# EAGLE library part ARD_PRO_MINI (library Ard_pro_mini)
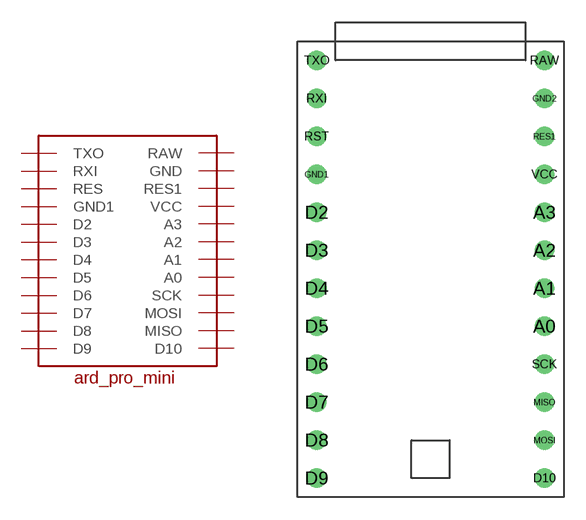
[diagram p0: symbol with the pads of ARD_PRO_MINI; footprint ARD_PRO_MINI]

Designator prefix -

## ARD_PRO_MINI  [ARD_PRO_MINI]
A0  A0
A1  A1
A2  A2
A3  A3
D2  D2
D3  D3
D4  D4
D5  D5
D6  D6
D7  D7
D8  D8
D9  D9
D10  D10
GND1  GND
GND2  GND1
MISO  MISO
MOSI  MOSI
RAW  RAW
RES1  RES
RST  RES1
RXI  RXI
SCK  SCK
TXO  TXO
VCC  VCC

## Footprint ARD_PRO_MINI (pad centres in mm)
drill 0.8: A0 7.62,0; A1 7.62,2.54; A2 7.62,5.08; A3 7.62,7.62; D2 -7.62,7.62; D3 -7.62,5.08; D4 -7.62,2.54; D5 -7.62,0; D6 -7.62,-2.54; D7 -7.62,-5.08; D8 -7.62,-7.62; D9 -7.62,-10.16; D10 7.62,-10.16; GND1 -7.62,10.16; GND2 7.62,15.24; MISO 7.62,-5.08; MOSI 7.62,-7.62; RAW 7.62,17.78; RES1 7.62,12.7; RST -7.62,12.7; RXI -7.62,15.24; SCK 7.62,-2.54; TXO -7.62,17.78; VCC 7.62,10.16